# Altium footprint library SOP-14.PcbLib: 1 footprints
Each footprint in its own frame and in the unit in brackets; x right, y up, seen from the top. Pads: shape width x height; smd on the part's side, far side on the other; paste and mask are expansions set on the pad; w line width, h text height; cw(c..) or ccw(c..) is an arc to the next point about the centre after c.
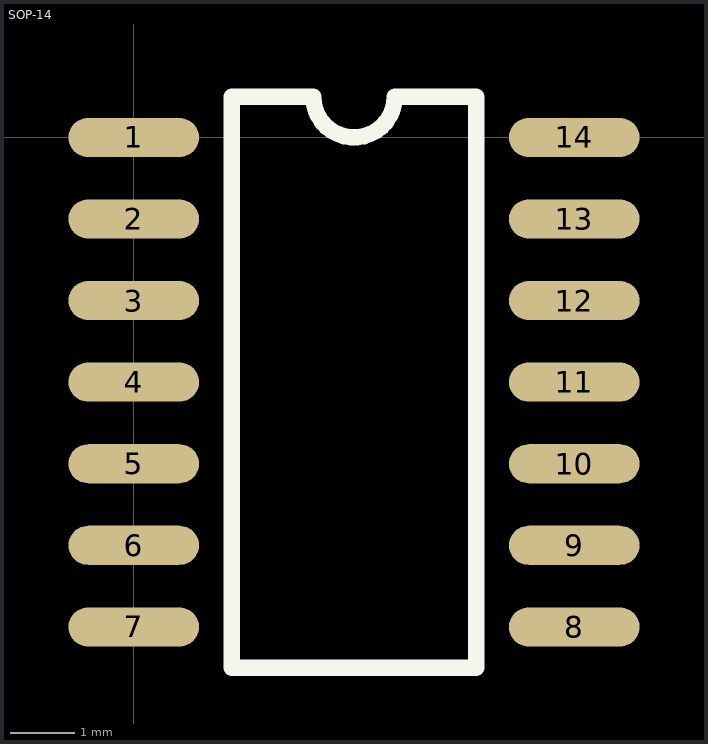
[diagram p0: the footprint, top view; thin cyan lines are the x and y axes]

## SOP-14 [mil]
pads (14):
  oval 80x24 smd: 1(0,0) 2(0,-50) 3(0,-100) 4(0,-150) 5(0,-200) 6(0,-250) 7(0,-300) 8(270,-300) 9(270,-250) 10(270,-200) 11(270,-150) 12(270,-100) 13(270,-50) 14(270,0)
TopOverlay:
  lines w10: 60,-325 210,-325 210,25 160,25 cw(c135,25) 110,25 60,25 60,-325
Mechanical4:
  text ".062" at 25,0 h1
  text ".065" at 25.19,0.86 h1
3D body: height 66.93, standoff 0, extent 16.89,-323.22 253.11,23.23